# EAGLE library part AT90USB162 (library X893)
http://www.atmel.com/dyn/resources/prod_documents/doc7707.pdf
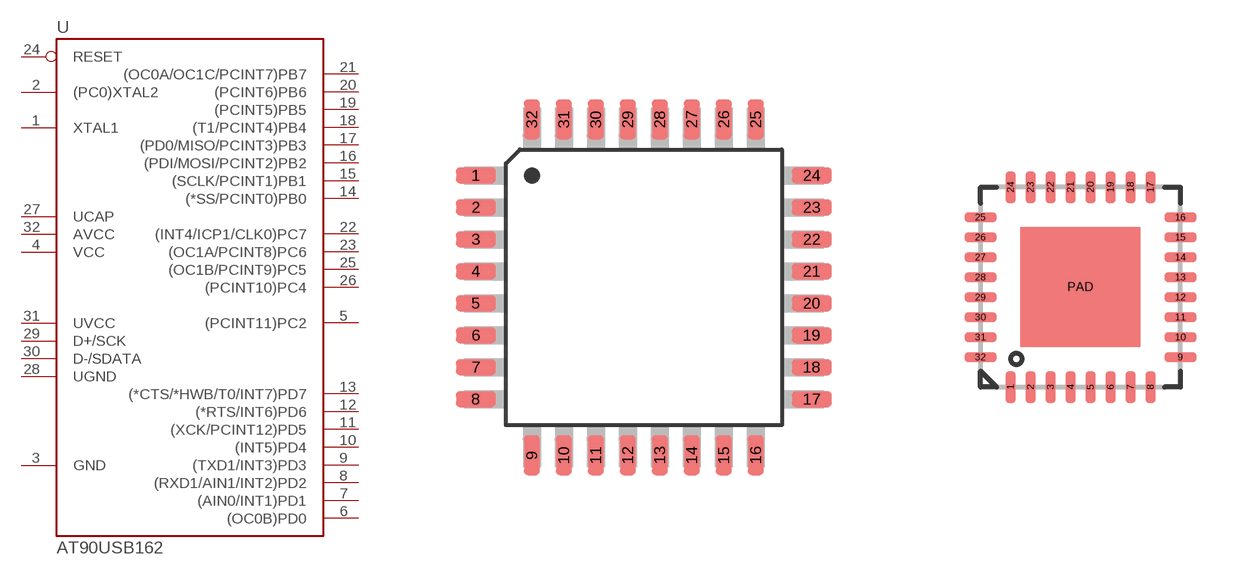
[diagram p38: symbol with the pads of VQFP32; footprints VQFP32, QFN32-5X5]

Designator prefix U

## AT90USB162-16AU  [VQFP32]
1  XTAL1
2  (PC0)XTAL2
3  GND  pwr
4  VCC  pwr
5  (PCINT11)PC2
6  (OC0B)PD0
7  (AIN0/INT1)PD1
8  (RXD1/AIN1/INT2)PD2
9  (TXD1/INT3)PD3
10  (INT5)PD4
11  (XCK/PCINT12)PD5
12  (*RTS/INT6)PD6
13  (*CTS/*HWB/T0/INT7)PD7
14  (*SS/PCINT0)PB0
15  (SCLK/PCINT1)PB1
16  (PDI/MOSI/PCINT2)PB2
17  (PD0/MISO/PCINT3)PB3
18  (T1/PCINT4)PB4
19  (PCINT5)PB5
20  (PCINT6)PB6
21  (OC0A/OC1C/PCINT7)PB7
22  (INT4/ICP1/CLK0)PC7
23  (OC1A/PCINT8)PC6
24  RESET  in
25  (OC1B/PCINT9)PC5
26  (PCINT10)PC4
27  UCAP  pwr
28  UGND  pwr
29  D+/SCK
30  D-/SDATA
31  UVCC  pwr
32  AVCC  pwr

## AT90USB162-16MU  [QFN32-5X5]
Pads as for VQFP32

## Footprint VQFP32 (pad centres in mm)
smd 1 x 0.4: 1 -4.2,2.8; 2 -4.2,2; 3 -4.2,1.2; 4 -4.2,0.4; 5 -4.2,-0.4; 6 -4.2,-1.2; 7 -4.2,-2; 8 -4.2,-2.8; 17 4.2,-2.8; 18 4.2,-2; 19 4.2,-1.2; 20 4.2,-0.4; 21 4.2,0.4; 22 4.2,1.2; 23 4.2,2; 24 4.2,2.8
smd 0.4 x 1: 9 -2.8,-4.2; 10 -2,-4.2; 11 -1.2,-4.2; 12 -0.4,-4.2; 13 0.4,-4.2; 14 1.2,-4.2; 15 2,-4.2; 16 2.8,-4.2; 25 2.8,4.2; 26 2,4.2; 27 1.2,4.2; 28 0.4,4.2; 29 -0.4,4.2; 30 -1.2,4.2; 31 -2,4.2; 32 -2.8,4.2

## Footprint QFN32-5X5 (pad centres in mm)
smd 0.25 x 0.8: 1 -1.75,-2.5; 2 -1.25,-2.5; 3 -0.75,-2.5; 4 -0.25,-2.5; 5 0.25,-2.5; 6 0.75,-2.5; 7 1.25,-2.5; 8 1.75,-2.5; 17 1.75,2.5; 18 1.25,2.5; 19 0.75,2.5; 20 0.25,2.5; 21 -0.25,2.5; 22 -0.75,2.5; 23 -1.25,2.5; 24 -1.75,2.5
smd 0.8 x 0.25: 9 2.5,-1.75; 10 2.5,-1.25; 11 2.5,-0.75; 12 2.5,-0.25; 13 2.5,0.25; 14 2.5,0.75; 15 2.5,1.25; 16 2.5,1.75; 25 -2.5,1.75; 26 -2.5,1.25; 27 -2.5,0.75; 28 -2.5,0.25; 29 -2.5,-0.25; 30 -2.5,-0.75; 31 -2.5,-1.25; 32 -2.5,-1.75
smd 0.5 x 0.5: PAD 0,0